# Altium footprint library 1939115_1.PcbLib: 1 footprints
Each footprint in its own frame and in the unit in brackets; x right, y up, seen from the top. Pads: shape width x height; smd on the part's side, far side on the other; paste and mask are expansions set on the pad; w line width, h text height; cw(c..) or ccw(c..) is an arc to the next point about the centre after c.
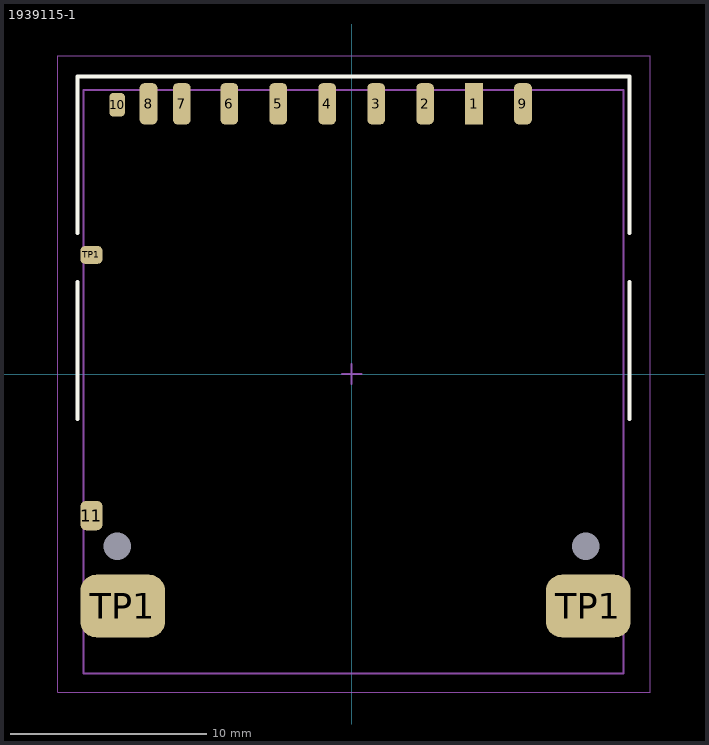
[diagram p0: the footprint, top view; thin cyan lines are the x and y axes]

## 1939115-1 [mm] "SD Card Connector, R/A Type"
height 2.6
pads (16):
  rect 0.9x2.1 smd: 1(6.255,13.8)
  rrect50% 0.9x2.1 smd: 2(3.755,13.8) 3(1.255,13.8) 4(-1.245,13.8) 5(-3.745,13.8) 6(-6.245,13.8) 7(-8.67,13.8) 8(-10.37,13.8) 9(8.755,13.8)
  rrect50% 0.8x1.2 smd: 10(-11.97,13.75)
  rrect50% 1.13x1.5 smd: 11(-13.285,-7.23)
  rrect50% 1.13x0.9 smd: TP1(-13.285,6.08)
  rrect50% 4.32x3.2 smd: TP1(-11.69,-11.85) TP1(12.09,-11.85)
  round 0 hole 1.4: ""(-11.97,-8.8) ""(11.97,-8.8)
Top Overlay:
  lines w0.2: -14,-2.3 -14,4.7 ; -14,7.2 -14,15.2 0,15.2 14.2,15.2 14.2,7.2 ; 14.2,-2.3 14.2,4.7
Top Comment:
  text ".Comment" at 0.5,16.5 h1.2
Top Designator:
  text ".Designator" at -1,16.5 h1.2
Top Component Outline:
  lines w0.1: -13.7,-15.3 13.9,-15.3 13.9,14.5 0,14.5 -13.7,14.5 -13.7,-15.3
Top Courtyard (Mech15):
  lines w0.05: -15,-16.25 -15,14.1 -15,16.25 -0.55,16.25 15.25,16.25 15.25,-16.25 -15,-16.25
  lines w0.1: -0.5,0 0.5,0 ; 0,-0.5 0,0.5
3D body "c-1939115-1-c-3d.stp": height 2.8, standoff -0.55, extent -13.73,-15.25 13.95,14.45